# Altium footprint library fci-media-card.PcbLib: 1 footprints
Each footprint in its own frame and in the unit in brackets; x right, y up, seen from the top. Pads: shape width x height; smd on the part's side, far side on the other; paste and mask are expansions set on the pad; w line width, h text height; cw(c..) or ccw(c..) is an arc to the next point about the centre after c.
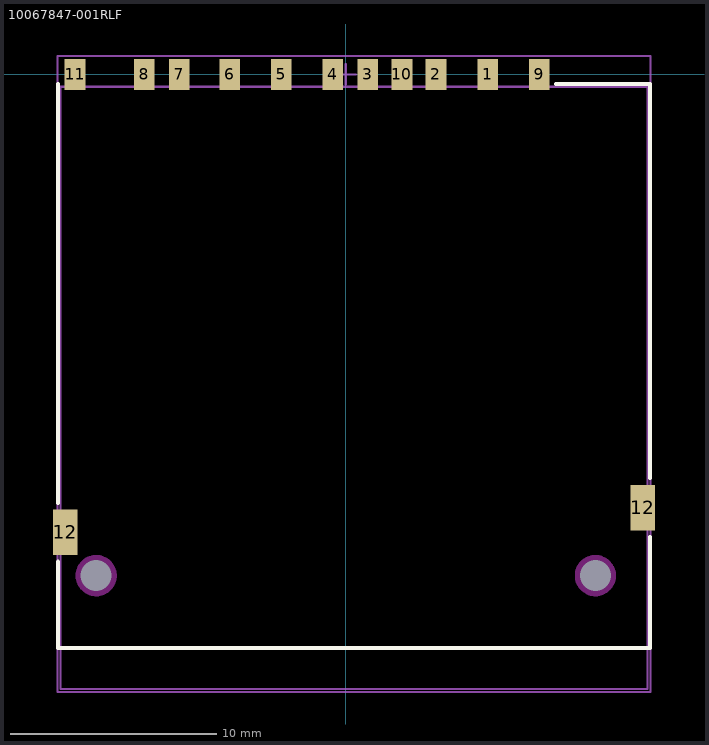
[diagram p0: the footprint, top view; thin cyan lines are the x and y axes]

## 10067847-001RLF [mm] "SD card reader Push - Push Type"
height 2.8
pads (15):
  round 0 hole 1.5 unplated: 0(-12.1,-24.3) 0(12.1,-24.3)
  rect 1x1.5 smd: 1(6.875,0) 2(4.375,0) 3(1.075,0) 4(-0.625,0) 5(-3.125,0) 6(-5.625,0) 7(-8.075,0) 8(-9.775,0) 9(9.375,0) 10(2.725,0) 11(-13.125,0)
  rect 1.2x2.2 smd: 12(-13.6,-22.2) 12(14.4,-21)
Top Overlay:
  lines w0.2: -13.95,-27.803 -13.95,-23.625 ; -13.95,-27.8 14.75,-27.8 ; -13.95,-20.775 -13.95,-0.475 ; 10.2,-0.475 14.75,-0.475 14.75,-19.575 ; 14.75,-27.803 14.75,-22.425
Mechanical 13:
  lines w0.1: -0.5,0 0.5,0 ; 0,-0.5 0,0.5 ; -13.825,-29.8 14.625,-29.8 14.625,-0.6 -13.825,-0.6 -13.825,-29.8
Mechanical 15:
  lines w0.1: -13.975,-29.95 14.775,-29.95 14.775,0.9 -13.975,0.9 -13.975,-29.95
  text ".Designator" at -1.7,-2.4 h0.5
Multi-Layer keep-out:
  circle w1: c12.1,-24.3 r0.5
  circle w1: c-12.1,-24.3 r0.5
3D body: height 2.92, standoff -0.68, extent -13.825,-29.8 14.625,0.45